# Altium schematic symbol library WS-SLTV.SchLib: 2 symbols
Pins are listed as number, name and electrical type; pins without a type are passive.

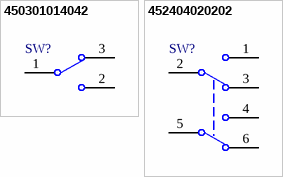
[diagram p0: symbols 450301014042 to 452404020202]

## 450301014042
designator SW?  (value not drawn)
WS-SLTV THT Mini Slide Switch, Opposite Side Connection 10x2.5 mm, 800g, SPDT; Manufacturer: Wurth Elektronik; Manufacturer Part Number: 450301014042; Category: Slide Switch; Match Code: WS-SLTV; ComponentLink1Description: Website Link; ComponentLink1URL: https://www.we-online.com; ComponentLink2Description: Datasheet Link; ComponentLink2URL: https://www.we-online.com/components/products/datasheet/450301014042; Mount: Through Hole; Operating Temperature Min: -40degC; Operating Temperature Max: 85degC; Packaging: Bulk; Length: 10mm; Width: 2.5mm; Height: 6.4mm; Operation Force: 800g; Schematic: SPDT
footprint 450301014042
pins: 1 COM, 2, 3

## 452404020202
designator SW?  (value not drawn)
WS-SLTV THT Mini Slide Switch, Same Side Connection 9.0x3.5 mm, 450g, DPDT; Manufacturer: Wurth Elektronik; Manufacturer Part Number: 452404020202; Category: Slide Switch; Match Code: WS-SLTV; ComponentLink1Description: Website Link; ComponentLink1URL: https://www.we-online.com; ComponentLink2Description: Datasheet Link; ComponentLink2URL: https://www.we-online.com/components/products/datasheet/452404020202; Mount: Through Hole; Operating Temperature Min: -40degC; Operating Temperature Max: 85degC; Packaging: Bulk; Length: 9mm; Width: 3.8mm; Height: 5.5mm; Operation Force: 450g; Schematic: DPDT
footprint 452404020202
pins: 1, 2 COM, 3, 4, 5 COM, 6